# Altium schematic symbol library GRM155R71C104KA88D.SchLib: 1 symbol
Pins are listed as number, name and electrical type; pins without a type are passive.

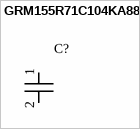
[diagram p0: symbol GRM155R71C104KA88D]

## GRM155R71C104KA88D
designator C?
CAP CER 0.1UF 16V X7R 0402; Manufacturer_Name: Murata; Manufacturer_Part_Number: GRM155R71C104KA88D
pins: 1, 2